# EAGLE library part PROMICRO (library Keys)
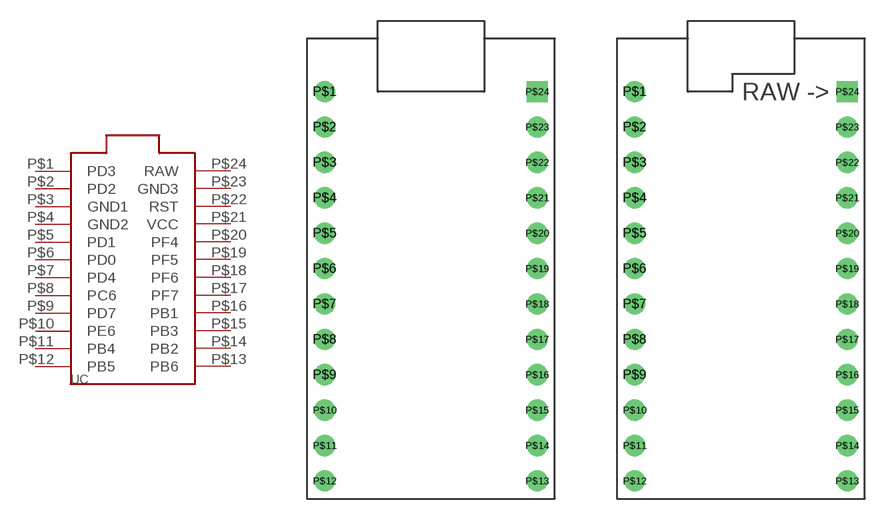
[diagram p0: symbol with the pads of PROMICRO; footprints PROMICRO, PROMICRO_UNDER]

Designator prefix UC

## PROMICROTOP  [PROMICRO]
P$1  PD3
P$2  PD2
P$3  GND1
P$4  GND2
P$5  PD1
P$6  PD0
P$7  PD4
P$8  PC6
P$9  PD7
P$10  PE6
P$11  PB4
P$12  PB5
P$13  PB6
P$14  PB2
P$15  PB3
P$16  PB1
P$17  PF7
P$18  PF6
P$19  PF5
P$20  PF4
P$21  VCC
P$22  RST
P$23  GND3
P$24  RAW

## PROMICROUNDER  [PROMICRO_UNDER]
Pads as for PROMICRO

## Footprint PROMICRO (pad centres in mm)
drill 1.016: P$1 -7.62,0; P$2 -7.62,-2.54; P$3 -7.62,-5.08; P$4 -7.62,-7.62; P$5 -7.62,-10.16; P$6 -7.62,-12.7; P$7 -7.62,-15.24; P$8 -7.62,-17.78; P$9 -7.62,-20.32; P$10 -7.62,-22.86; P$11 -7.62,-25.4; P$12 -7.62,-27.94; P$13 7.62,-27.94; P$14 7.62,-25.4; P$15 7.62,-22.86; P$16 7.62,-20.32; P$17 7.62,-17.78; P$18 7.62,-15.24; P$19 7.62,-12.7; P$20 7.62,-10.16; P$21 7.62,-7.62; P$22 7.62,-5.08; P$23 7.62,-2.54
drill 1.016 square: P$24 7.62,0

## Footprint PROMICRO_UNDER (pad centres in mm)
drill 1.016: P$1 -7.62,0; P$2 -7.62,-2.54; P$3 -7.62,-5.08; P$4 -7.62,-7.62; P$5 -7.62,-10.16; P$6 -7.62,-12.7; P$7 -7.62,-15.24; P$8 -7.62,-17.78; P$9 -7.62,-20.32; P$10 -7.62,-22.86; P$11 -7.62,-25.4; P$12 -7.62,-27.94; P$13 7.62,-27.94; P$14 7.62,-25.4; P$15 7.62,-22.86; P$16 7.62,-20.32; P$17 7.62,-17.78; P$18 7.62,-15.24; P$19 7.62,-12.7; P$20 7.62,-10.16; P$21 7.62,-7.62; P$22 7.62,-5.08; P$23 7.62,-2.54
drill 1.016 square: P$24 7.62,0